# EAGLE library part TLI4971A050T5UE0001XUMA1 (library TLI4971A050T5UE0001XUMA1)
Current Sensor 50A 1 Channel Hall Effect, Open Loop Unidirectional 8-PowerTDFN Check availability <https://pricing.snapeda.com/parts/TLI4971A050T5UE0001XUMA1/Infineon%20Technologies/view-part?ref=eda>
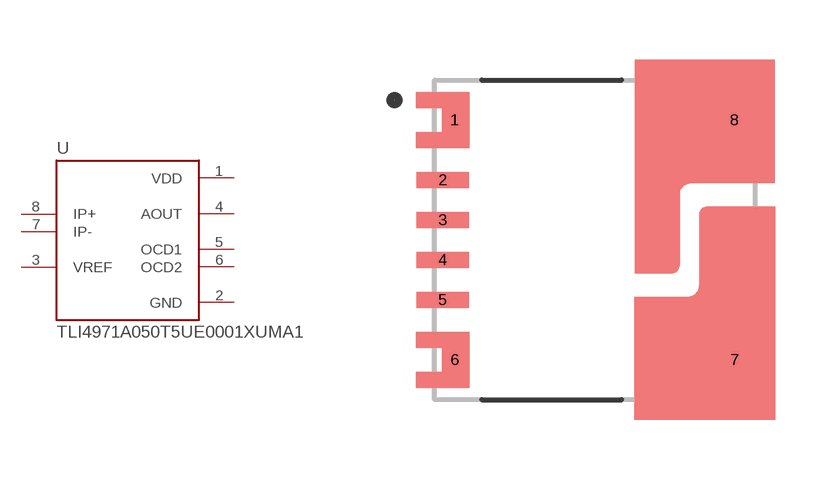
[diagram p0: symbol with the pads of IC_TLI4971A050T5UE0001XUMA1; footprint IC_TLI4971A050T5UE0001XUMA1]

Designator prefix U

## TLI4971A050T5UE0001XUMA1 (Availability: In Stock; Description: Current Sensor 50A 1 Channel Hall Effect, Open Loop Unidirectional 8-PowerTDFN; MF: Infineon Technologies; MP: TLI4971A050T5UE0001XUMA1; Package: PowerTDFN-8 Infineon Technologies; Price: None; Purchase-URL: https://pricing.snapeda.com/search/part/TLI4971A050T5UE0001XUMA1/?ref=eda)  [IC_TLI4971A050T5UE0001XUMA1]
1  VDD  pwr
2  GND  pwr
3  VREF
4  AOUT  out
5  OCD1  out
6  OCD2  out
7  IP-  in
8  IP+  in

## Footprint IC_TLI4971A050T5UE0001XUMA1 (pad centres in mm)
smd 0.4 x 0.4: 1 -3.5,3; 6 -3.5,-3; 7 3.5,-3; 8 3.5,3
smd 1.3 x 0.4: 2 -3.8,1.5; 3 -3.8,0.5; 4 -3.8,-0.5; 5 -3.8,-1.5